# EAGLE library part CD4017BE (library my_devices)
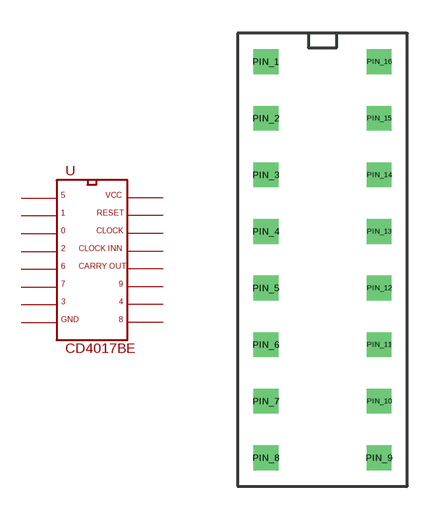
[diagram p13: symbol with the pads of DIP16; footprint DIP16]

Designator prefix U

## CD4017BE  [DIP16]
PIN_1  OUT_5
PIN_2  OUT_1
PIN_3  OUT_0
PIN_4  OUT_2
PIN_5  OUT_6
PIN_6  OUT_7
PIN_7  OUT_3
PIN_8  GND  pwr
PIN_9  OUT_8
PIN_10  OUT_4
PIN_11  OUT_9
PIN_12  CARRY_OUT
PIN_13  CLOCK_INN
PIN_14  CLOCK
PIN_15  RESET
PIN_16  VCC  pwr

## Footprint DIP16 (pad centres in mm)
drill 0.6 square: PIN_1 -2.54,10.16; PIN_2 -2.54,7.62; PIN_3 -2.54,5.08; PIN_4 -2.54,2.54; PIN_5 -2.54,0; PIN_6 -2.54,-2.54; PIN_7 -2.54,-5.08; PIN_8 -2.54,-7.62; PIN_9 2.54,-7.62; PIN_10 2.54,-5.08; PIN_11 2.54,-2.54; PIN_12 2.54,0; PIN_13 2.54,2.54; PIN_14 2.54,5.08; PIN_15 2.54,7.62; PIN_16 2.54,10.16